# Altium schematic symbol library custom.SchLib: 34 symbols
Pins are listed as number, name and electrical type; pins without a type are passive.

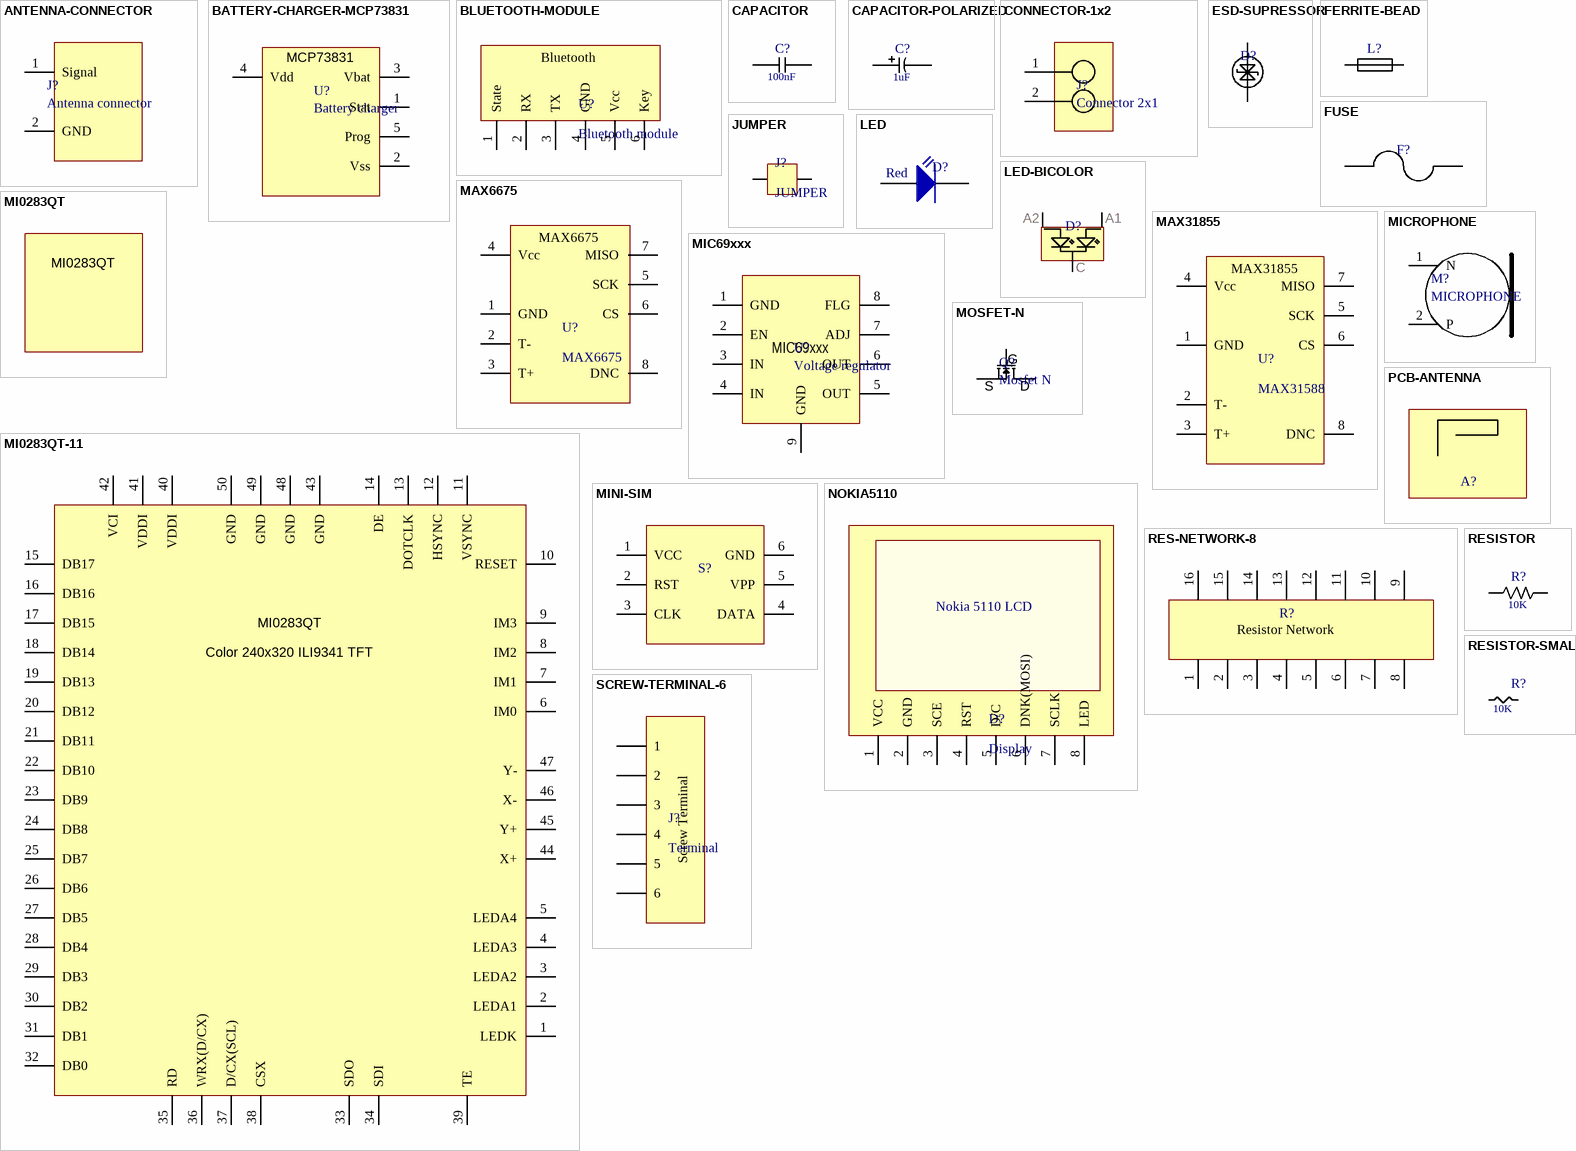
[diagram p0: symbols ANTENNA-CONNECTOR to SCREW-TERMINAL-6]

## ANTENNA-CONNECTOR
designator J?, comment Antenna connector
footprint ANTENNA-CONNECTOR (PCB UFL antenna connector)
pins: 1 Signal, 2 GND

## BATTERY-CHARGER-MCP73831
designator U?, comment Battery charger
Single cell battery management
footprint SOT23-5 (SOT23 5-Leads)
pins: 1 Stat, 2 Vss, 3 Vbat, 4 Vdd, 5 Prog
text: MCP73831

## BLUETOOTH-MODULE
designator U?, comment Bluetooth module
footprint BLUETOOTH-MODULE (Bluetooth serial module)
pins: 1 State, 2 RX, 3 TX, 4 GND, 5 Vcc, 6 Key
text: Bluetooth

## CAPACITOR
designator C?  value 100nF  (hidden comment: CAPACITOR)
footprint CAP-0603-GEN (Non-polarized 0603 (1608) chip capacitor)
pins: 1, 2

## CAPACITOR-POLARIZED
designator C?  value 1uF  (hidden comment: CAPACITOR-POLARIZED)
Polarized capacitor
footprint CAP-0603-POL (0603 (1608) polarized chip capacitor)
footprint CAP-2412-POL (2412 (6032) polarized chip capacitor)
footprint CAP-1206-POL (1206 (3216) polarized chip capacitor)
pins: 1, 2

## CONNECTOR-1x2
designator J?, comment Connector 2x1
Single row two contact connector
footprint DF13-1x2 (Single row two contact connector)
footprint JST-PH-1x2 (JST-PH single row two contact connector)
pins: 1, 2

## ESD-SUPRESSOR
designator D?, comment ESD supressor  (value not drawn)
ESD supressor diode
footprint ESD-SUPRESSOR-0603 (0603 (1608) ESD supressor diode)
pins: 1, 2

## FERRITE-BEAD
designator L?, comment Ferrite bead  (value not drawn)
footprint FERRITE-1206 (1206 (3216) ferrite bead)
footprint FERRITE-0603 (Chip resistor 0603 (1608))
pins: 1, 2

## FUSE
designator F?, comment Fuse  (value not drawn)
footprint FUSE-0603 (0603 (1608) resettable fuse)
pins: 1, 2

## JUMPER
designator J?
footprint JUMPER-0603 (0604 (1608) resistor based jumper)
pins: 1, 2

## LED
designator D?  Color: Red  (hidden comment: LED)
footprint LED-0603 (0603 (1608) LED)
footprint LED-5MM-RIGHT (Right-angle 5mm SMD LED)
pins: 1 Anode, 2 Cathode

## LED-BICOLOR
designator D?, comment Bicolor LED  (value not drawn)
footprint SOT23-3 (SOT23 3-leads mosfet)
pins: 1 Anode1, 2 Anode2, 3 Cathode
text: A2; A1; C

## MAX6675
designator U?
5v SPI temperature IC
footprint SO8_N (Footprint not found)
pins: 1 GND, 2 T-, 3 T+, 4 Vcc, 5 SCK, 6 CS, 7 MISO, 8 DNC

## MAX31855
designator U?, comment MAX31588
3.3v SPI temperature IC
footprint SO8_N (Footprint not found)
pins: 1 GND, 2 T-, 3 T+, 4 Vcc, 5 SCK, 6 CS, 7 MISO, 8 DNC

## MI0283QT
designator TFT?, comment Screen  (value not drawn)
MI0283QT TFT screen
footprint MI0283QT (MI0283QT TFT)

## MI0283QT-11
designator TFT?, comment TFT  (value not drawn)
MI0283QT 2.8" TFT
footprint FCI-62684-50210E9ALF (FCI 50 pin FPC 0.5mm pitch connector)
pins: 1 LEDK, 2 LEDA1, 3 LEDA2, 4 LEDA3, 5 LEDA4, 6 IM0, 7 IM1, 8 IM2, 9 IM3, 10 RESET, 11 VSYNC, 12 HSYNC, 13 DOTCLK, 14 DE, 15 DB17, 16 DB16, 17 DB15, 18 DB14, 19 DB13, 20 DB12, 21 DB11, 22 DB10, 23 DB9, 24 DB8, 25 DB7, 26 DB6, 27 DB5, 28 DB4, 29 DB3, 30 DB2, 31 DB1, 32 DB0, 33 SDO, 34 SDI, 35 RD, 36 WRX(D/CX), 37 D/CX(SCL), 38 CSX, 39 TE, 40 VDDI, 41 VDDI, 42 VCI, 43 GND, 44 X+, 45 Y+, 46 X-, 47 Y-, 48 GND, 49 GND, 50 GND
text: MI0283QT; Color 240x320 ILI9341 TFT

## MIC69xxx
designator U?, comment Voltage regulator
MIC69xxx family voltage regulator
footprint SOIC-8-EPAD (8 pin ePad SOIC)
pins: 1 GND, 2 EN, 3 IN, 4 IN, 5 OUT, 6 OUT, 7 ADJ, 8 FLG, 9 GND

## MICROPHONE
designator M?
footprint MICROPHONE (Microphone)
pins: 1 N, 2 P

## MINI-SIM
designator S?, comment SIM  (value not drawn)
Mini SIM card holder
footprint MINI-SIM (Mini SIM-card holder)
pins: 1 VCC, 2 RST, 3 CLK, 4 DATA, 5 VPP, 6 GND

## MOSFET-N
designator Q?, comment Mosfet N
N-channel mosfet
footprint SOT23-3 (SOT23 3-leads mosfet)
pins: 1 Gate, 2 Source, 3 Drain
text: G; S; D

## NOKIA5110
designator D?, comment Display
Nokia 5119 LCD display
footprint NOKIA5110 (Nokia 5110 LCD screen)
pins: 1 VCC, 2 GND, 3 SCE, 4 RST, 5 D/C, 6 DNK(MOSI), 7 SCLK, 8 LED
text: Nokia 5110 LCD

## PCB-ANTENNA
designator A?, comment Antenna  (value not drawn)
PCB GSM antenna
footprint PCB-ANTENNA (PCB antenna)

## RES-NETWORK-8
designator R?, comment Resistor network  (value not drawn)
16 pin resistor network
footprint RES-NETWORK-8 (Resistor network with 8 resitors and 16 leads)
pins: 1, 2, 3, 4, 5, 6, 7, 8, 9, 10, 11, 12, 13, 14, 15, 16
text: Resistor Network

## RESISTOR
designator R?  value 10K  (hidden comment: RESISTOR)
footprint RESISTOR-0603 (Chip resistor 0603 (1608))
pins: 1, 2

## RESISTOR-SMALL
designator R?, comment value 10K  (hidden comment: Resistor)
footprint RESISTOR-0603 (Chip resistor 0603 (1608))
pins: 1, 2

## SCREW-TERMINAL-6
designator J?, comment Terminal
6 pin screw terminal
footprint SCREW-TERMINAL-6 (6-terminal screw 2.54mm pitch)
pins: 1, 2, 3, 4, 5, 6
text: Screw Terminal

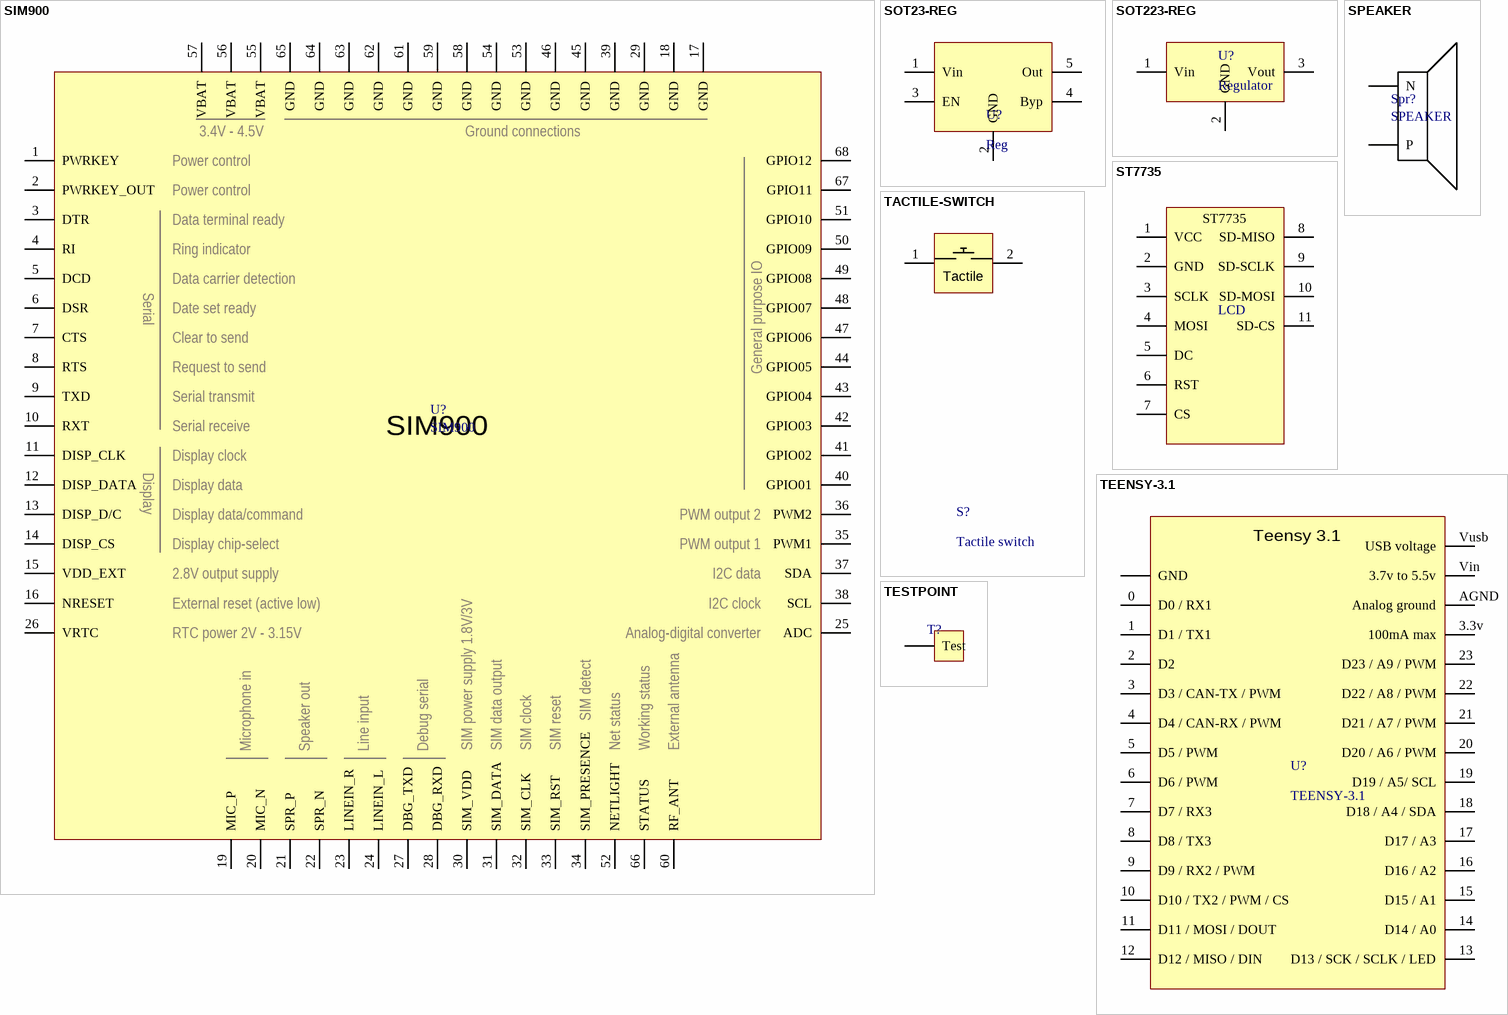
[diagram p1: symbols SIM900 to TESTPOINT]

## SIM900
designator U?
SIM900 GSM Module
footprint SIM900 (SIM900 GSM Module)
pins: 1 PWRKEY, 2 PWRKEY_OUT, 3 DTR, 4 RI, 5 DCD, 6 DSR, 7 CTS, 8 RTS, 9 TXD, 10 RXT, 11 DISP_CLK, 12 DISP_DATA, 13 DISP_D/C, 14 DISP_CS, 15 VDD_EXT, 16 NRESET, 17 GND, 18 GND, 19 MIC_P, 20 MIC_N, 21 SPR_P, 22 SPR_N, 23 LINEIN_R, 24 LINEIN_L, 25 ADC, 26 VRTC, 27 DBG_TXD, 28 DBG_RXD, 29 GND, 30 SIM_VDD, 31 SIM_DATA, 32 SIM_CLK, 33 SIM_RST, 34 SIM_PRESENCE, 35 PWM1, 36 PWM2, 37 SDA, 38 SCL, 39 GND, 40 GPIO01, 41 GPIO02, 42 GPIO03, 43 GPIO04, 44 GPIO05, 45 GND, 46 GND, 47 GPIO06, 48 GPIO07, 49 GPIO08, 50 GPIO09, 51 GPIO10, 52 NETLIGHT, 53 GND, 54 GND, 55 VBAT, 56 VBAT, 57 VBAT, 58 GND, 59 GND, 60 RF_ANT, 61 GND, 62 GND, 63 GND, 64 GND, 65 GND, 66 STATUS, 67 GPIO11, 68 GPIO12
text: 3.4V - 4.5V; Ground connections; Power control; Data terminal ready; Ring indicator; Data carrier detection; Serial; Date set ready; General purpose IO; Clear to send; Request to send; Serial transmit; Serial receive; Display clock; Display data; Display; Display data/command; PWM output 2; Display chip-select; PWM output 1; 2.8V output supply; I2C data; External reset (active low); I2C clock; RTC power 2V - 3.15V; Analog-digital converter; SIM detect; Microphone in; Speaker out; Line input; Debug serial; SIM power supply 1.8V/3V; SIM data output; SIM clock; SIM reset; Net status; Working status; External antenna

## SOT23-REG
designator U?, comment Reg
Voltage regulator
footprint SOT23-5 (SOT23 5-Leads)
pins: 1 Vin, 2 GND, 3 EN, 4 Byp, 5 Out

## SOT223-REG
designator U?, comment Regulator
SOT223 regulator
footprint SOT233 (SOT223 4-Leads)
pins: 1 Vin, 2 GND, 3 Vout, 4 GND hidden

## SPEAKER
designator Spr?
footprint SPEAKER (Speaker)
footprint SPEAKER-SR6438NWS-000 (Knowles SR6438NWS-000 speaker)
pins: 1 N, 2 P

## ST7735
designator LCD?, comment LCD
ST7735 color LCD
footprint ST7735 (ST7737 128x160 LCD)
pins: 1 VCC, 2 GND, 3 SCLK, 4 MOSI, 5 DC, 6 RST, 7 CS, 8 SD-MISO, 9 SD-SCLK, 10 SD-MOSI, 11 SD-CS

## TACTILE-SWITCH
designator S?, comment Tactile switch
footprint TACTILE-SWITCH (Tactile switch)
pins: 1, 2
text: Tactile

## TEENSY-3.1
designator U?
Teensy 3.1 breakout
footprint TEENSY-3.1 (Teensy 3.1 breakout)
pins: 0 D0 / RX1, 1 D1 / TX1, 2 D2, 3 D3 / CAN-TX / PWM, 3.3v 100mA max, 4 D4 / CAN-RX / PWM, 5 D5 / PWM, 6 D6 / PWM, 7 D7 / RX3, 8 D8 / TX3, 9 D9 / RX2 / PWM, 10 D10 / TX2 / PWM / CS, 11 D11 / MOSI / DOUT, 12 D12 / MISO / DIN, 13 D13 / SCK / SCLK / LED, 14 D14 / A0, 15 D15 / A1, 16 D16 / A2, 17 D17 / A3, 18 D18 / A4 / SDA, 19 D19 / A5/ SCL, 20 D20 / A6 / PWM, 21 D21 / A7 / PWM, 22 D22 / A8 / PWM, 23 D23 / A9 / PWM, AGND Analog ground, GND, Vin 3.7v to 5.5v, Vusb USB voltage
text: Teensy 3.1

## TESTPOINT
designator T?  (value not drawn)
Solder-resist free via
footprint Testpoint
pins: 1 Test